# Altium integrated library AD5206BRUZ50.IntLib: 1 symbol
Pins are listed as number, name and electrical type; pins without a type are passive.

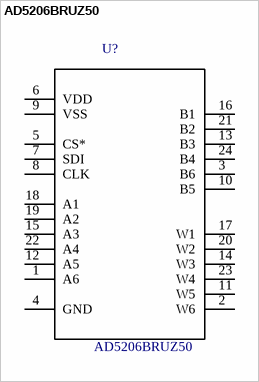
[diagram p0: symbol AD5206BRUZ50]

## AD5206BRUZ50
designator U?
Check_prices: https://www.snapeda.com/parts/AD5206BRUZ50/Analog+Devices/view-part/?ref=eda; SnapEDA_Link: https://www.snapeda.com/parts/AD5206BRUZ50/Analog+Devices/view-part/?ref=snap; Value: *
footprint *SOP65P640X120-24N
pins: 1 A6, 2 W6, 3 B6, 4 GND (power), 5 CS*, 6 VDD (power), 7 SDI, 8 CLK, 9 VSS (power), 10 B5, 11 W5, 12 A5, 13 B3, 14 W3, 15 A3, 16 B1, 17 W1, 18 A1, 19 A2, 20 W2, 21 B2, 22 A4, 23 W4, 24 B4